# EAGLE library part PCA9635 (library ICs)
The PCA9635 is an I2C-bus controlled 16-bit LED driver optimized for Red/Green/Blue/Amber (RGBA) color mixing applications. Each LED output has its own 8-bit resolution (256 steps) fixed frequency individual PWM controller that operates at 97 kHz with a duty cycle that is adjustable from 0 % to 99.6 % to allow the LED to be set to a specific brightness value. An additional 8-bit resolution (256 steps) group PWM controller has both a fixed frequency of 190 Hz and an adjustable frequency between 24 Hz to once every 10.73 seconds with a duty cycle that is adjustable from 0 % to 99.6 % that is used to either dim or blink all LEDs with the same value. Each LED output can be off, on (no PWM control), set at its individual PWM controller value or at both individual and group PWM controller values. The LED output driver is programmed to be either open-drain with a 25 mA current sink capability at 5 V or totem-pole with a 25 mA sink, 10 mA source capability at 5 V. The PCA9635 operates with a supply voltage range of 2.3 V to 5.5 V and the outputs are 5.5 V tolerant. LEDs can be directly connected to the LED output (up to 25 mA, 5.5 V) or controlled with external drivers and a minimum amount of discrete components for larger current or higher voltage LEDs. The PCA9635 is one of the first LED controller devices in a new Fast-mode Plus (Fm+) family. Fm+ devices offer higher frequency (up to 1 MHz) and more densely populated bus operation (up to 4000 pF). The active LOW Output Enable input pin (OE) allows asynchronous control of the LED outputs and can be used to set all the outputs to a defined I2C-bus programmable logic state. The OE can also be used to externally PWM the outputs, which is useful when multiple devices need to be dimmed or blinked together using software control. Software programmable LED Group and three Sub Call I2C-bus addresses allow all or defined groups of PCA9635 devices to respond to a common I2C-bus address, allowing for example, all red LEDs to be turned on or off at the same time or marquee chasing effect, thus minimizing I2C-bus commands. Seven hardware address pins allow up to 126 devices on the same bus. The Software Reset (SWRST) Call allows the master to perform a reset of the PCA9635 through the I2C-bus, identical to the Power-On Reset (POR) that initializes the registers to their default state causing the outputs to be set HIGH (LED off). This allows an easy and quick way to reconfigure all device registers to the same condition.
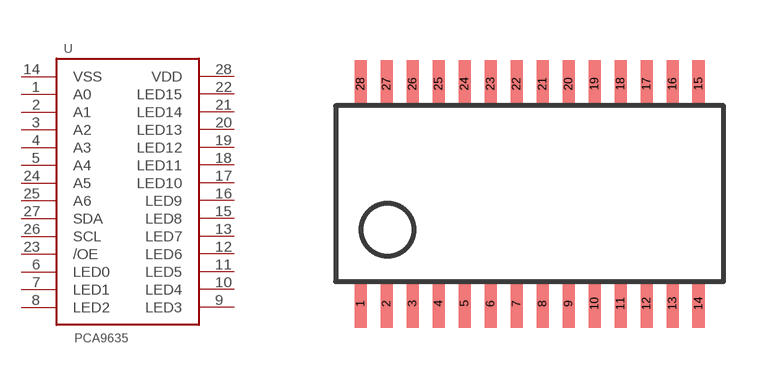
[diagram p13: symbol with the pads of TSSOP28; footprint TSSOP28]

Designator prefix -

## PCA9635  [TSSOP28]
1  A0
2  A1
3  A2
4  A3
5  A4
6  LED0
7  LED1
8  LED2
9  LED3
10  LED4
11  LED5
12  LED6
13  LED7
14  VSS  pwr
15  LED8
16  LED9
17  LED10
18  LED11
19  LED12
20  LED13
21  LED14
22  LED15
23  /OE
24  A5
25  A6
26  SCL
27  SDA
28  VDD  pwr

## Footprint TSSOP28 (pad centres in mm)
smd 0.3 x 1.2: 1 0.625,-0.55; 2 1.275,-0.55; 3 1.925,-0.55; 4 2.575,-0.55; 5 3.225,-0.55; 6 3.875,-0.55; 7 4.525,-0.55; 8 5.175,-0.55; 9 5.825,-0.55; 10 6.475,-0.55; 11 7.125,-0.55; 12 7.775,-0.55; 13 8.425,-0.55; 14 9.075,-0.55; 15 9.075,4.95; 16 8.425,4.95; 17 7.775,4.95; 18 7.125,4.95; 19 6.475,4.95; 20 5.825,4.95; 21 5.175,4.95; 22 4.525,4.95; 23 3.875,4.95; 24 3.225,4.95; 25 2.575,4.95; 26 1.925,4.95; 27 1.275,4.95; 28 0.625,4.95